# EAGLE library part USB_SWITCH (library Cing Library)
311030005
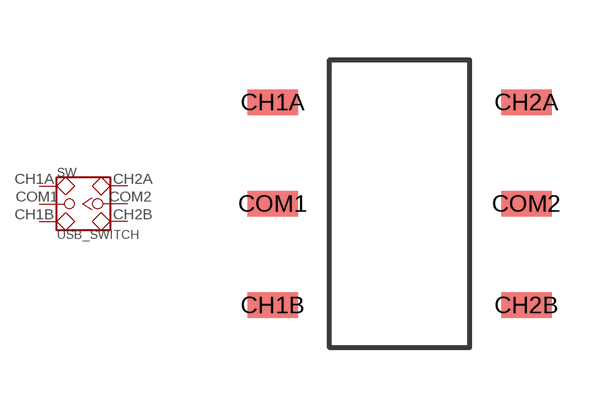
[diagram p1: symbol with the pads of USB_SWITCH; footprint USB_SWITCH]

Designator prefix SW

## USB_SWITCH  [USB_SWITCH]
CH1A  CH1A
CH1B  CH1B
CH2A  CH2A
CH2B  CH2B
COM1  COM1
COM2  COM2

## Footprint USB_SWITCH (pad centres in mm)
smd 1.27 x 0.635: CH1A -3.175,2.54; CH1B -3.175,-2.54; CH2A 3.175,2.54; CH2B 3.175,-2.54; COM1 -3.175,0; COM2 3.175,0